# EAGLE library part TERMINAL-BLOCK-07POLES (library maelstrom-labs-public)
Terminal block with 07 poles.
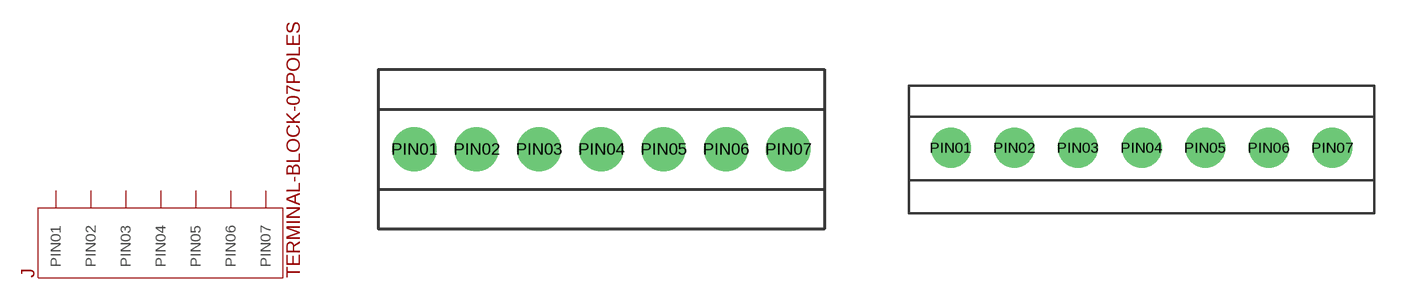
[diagram p1: symbol with the pads of TERMINAL-BLOCK-2.54MM-07POLES; footprints TERMINAL-BLOCK-2.54MM-07POLES, TERMINAL-BLOCK-3.5MM-07POLES]

Designator prefix J

## TERMINAL-BLOCK-07POLES2.54MM  [TERMINAL-BLOCK-2.54MM-07POLES]
PIN01  PIN01
PIN02  PIN02
PIN03  PIN03
PIN04  PIN04
PIN05  PIN05
PIN06  PIN06
PIN07  PIN07

## TERMINAL-BLOCK-07POLES3.5MM  [TERMINAL-BLOCK-3.5MM-07POLES]
Pads as for TERMINAL-BLOCK-2.54MM-07POLES

## TERMINAL-BLOCK-07POLES5MM  [TERMINAL-BLOCK-5MM-07POLES]
Pads as for TERMINAL-BLOCK-2.54MM-07POLES

## Footprint TERMINAL-BLOCK-2.54MM-07POLES (pad centres in mm)
2.54mm Terminal block with 7 poles.
drill 1.1 pad 1.8: PIN01 1.47,-3.25; PIN02 4.01,-3.25; PIN03 6.55,-3.25; PIN04 9.09,-3.25; PIN05 11.63,-3.25; PIN06 14.17,-3.25; PIN07 16.71,-3.25

## Footprint TERMINAL-BLOCK-3.5MM-07POLES (pad centres in mm)
3.5mm Terminal block with 7 poles.
drill 1.1 pad 2.2: PIN01 2.3,-3.4; PIN02 5.8,-3.4; PIN03 9.3,-3.4; PIN04 12.8,-3.4; PIN05 16.3,-3.4; PIN06 19.8,-3.4; PIN07 23.3,-3.4

## Footprint TERMINAL-BLOCK-5MM-07POLES (pad centres in mm)
5mm Terminal block with 7 poles.
drill 1.2 pad 2.3: PIN01 3.1,-4.2; PIN02 8.1,-4.2; PIN03 13.1,-4.2; PIN04 18.1,-4.2; PIN05 23.1,-4.2; PIN06 28.1,-4.2; PIN07 33.1,-4.2